# Altium footprint library ACS712.PcbLib: 1 footprints
Each footprint in its own frame and in the unit in brackets; x right, y up, seen from the top. Pads: shape width x height; smd on the part's side, far side on the other; paste and mask are expansions set on the pad; w line width, h text height; cw(c..) or ccw(c..) is an arc to the next point about the centre after c.
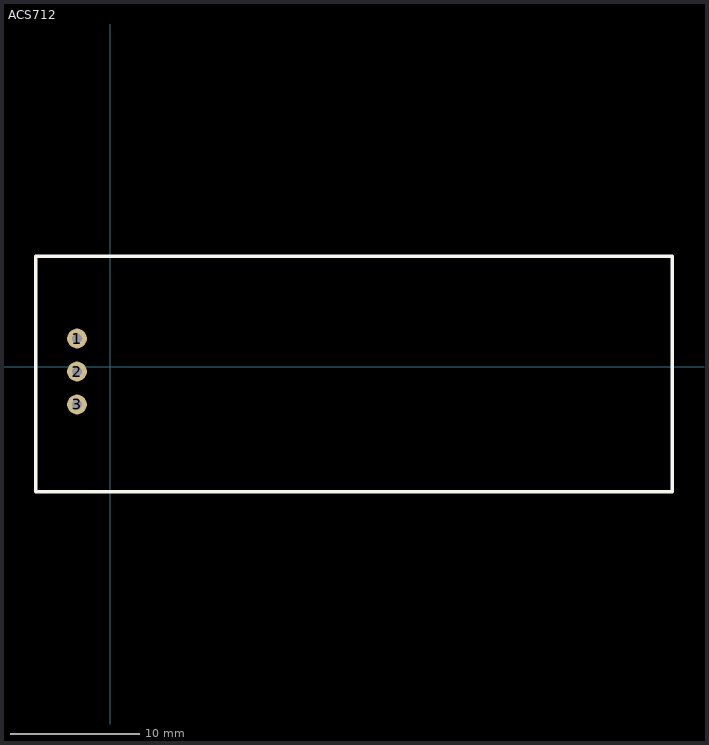
[diagram p0: the footprint, top view; thin cyan lines are the x and y axes]

## ACS712 [mil]
pads (3):
  round 60 hole 30: 1(-100,85) 2(-100,-15) 3(-100,-115)
Top Overlay:
  lines w10: -225,-380 -225,-15 -225,335 1705,335 1705,-380 -225,-380
3D body: height 787.4, standoff 0, extent -230,-380 1705,335